# Altium footprint library IS-IMX-5.PcbLib: 1 footprints
Each footprint in its own frame and in the unit in brackets; x right, y up, seen from the top. Pads: shape width x height; smd on the part's side, far side on the other; paste and mask are expansions set on the pad; w line width, h text height; cw(c..) or ccw(c..) is an arc to the next point about the centre after c.
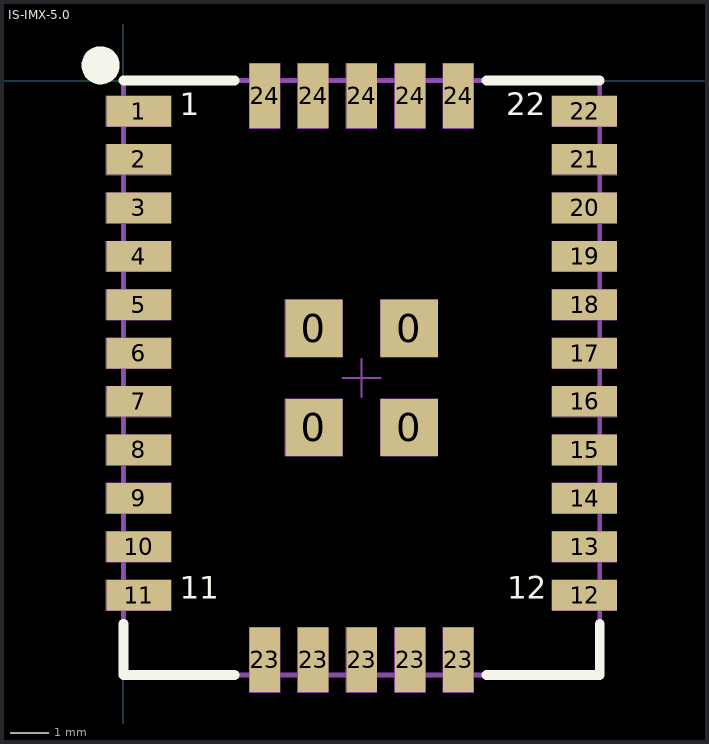
[diagram p0: the footprint, top view; thin cyan lines are the x and y axes]

## IS-IMX-5.0 [mm] "Inerial Sense IMX-5.0, 22pins 1.27mm pitch"
height 2.86
pads (36):
  rect 1.5x1.5 smd: 0(5,-9.1) 0(5,-6.5) 0(7.5,-9.1) 0(7.5,-6.5)
  rect 1.7x0.8 smd: 1(0.4,-0.8) 2(0.4,-2.07) 3(0.4,-3.34) 4(0.4,-4.61) 5(0.4,-5.88) 6(0.4,-7.15) 7(0.4,-8.42) 8(0.4,-9.69) 9(0.4,-10.96) 10(0.4,-12.23) 11(0.4,-13.5) 12(12.1,-13.5) 13(12.1,-12.23) 14(12.1,-10.96) 15(12.1,-9.69) 16(12.1,-8.42) 17(12.1,-7.15) 18(12.1,-5.88) 19(12.1,-4.61) 20(12.1,-3.34) 21(12.1,-2.07) 22(12.1,-0.8)
  rect 0.8x1.7 smd: 23(3.71,-15.2) 23(4.98,-15.2) 23(6.25,-15.2) 23(7.52,-15.2) 23(8.79,-15.2) 24(3.71,-0.4) 24(4.98,-0.4) 24(6.25,-0.4) 24(7.52,-0.4) 24(8.79,-0.4)
Top Overlay:
  circle w0.5: c-0.6,0.4 r0.25
  lines w0.254: 0,-14.25 0,-15.6 2.921,-15.6 ; 0,0 2.921,0 ; 9.525,-15.6 12.5,-15.6 ; 9.525,0 12.5,0 ; 12.5,-15.6 12.5,-14.25
  text "22" at 10.048,-1.1 h1.02
  text "12" at 10.075,-13.8 h1.02
  text "11" at 1.473,-13.8 h1.02
  text "1" at 1.473,-1.1 h1.02
Mechanical 13:
  lines w0.05: 5.75,-7.8 6.75,-7.8 ; 6.25,-8.3 6.25,-7.3
  lines w0.127: 0,-15.6 0,0 12.5,0 12.5,-15.6 0,-15.6
Mechanical 16:
  lines w0.025: -0.45,-13.9 -0.45,-13.1 1.25,-13.1 1.25,-13.9 -0.45,-13.9 ; -0.45,-12.63 -0.45,-11.83 1.25,-11.83 1.25,-12.63 -0.45,-12.63 ; -0.45,-11.36 -0.45,-10.56 1.25,-10.56 1.25,-11.36 -0.45,-11.36 ; -0.45,-10.09 -0.45,-9.29 1.25,-9.29 1.25,-10.09 -0.45,-10.09 ; -0.45,-8.82 -0.45,-8.02 1.25,-8.02 1.25,-8.82 -0.45,-8.82 ; -0.45,-7.55 -0.45,-6.75 1.25,-6.75 1.25,-7.55 -0.45,-7.55 ; -0.45,-6.28 -0.45,-5.48 1.25,-5.48 1.25,-6.28 -0.45,-6.28 ; -0.45,-5.01 -0.45,-4.21 1.25,-4.21 1.25,-5.01 -0.45,-5.01 ; -0.45,-3.74 -0.45,-2.94 1.25,-2.94 1.25,-3.74 -0.45,-3.74 ; -0.45,-2.47 -0.45,-1.67 1.25,-1.67 1.25,-2.47 -0.45,-2.47 ; -0.45,-1.2 -0.45,-0.4 1.25,-0.4 1.25,-1.2 -0.45,-1.2 ; 3.31,-16.05 4.11,-16.05 4.11,-14.35 3.31,-14.35 3.31,-16.05 ; 3.31,-1.25 3.31,0.45 4.11,0.45 4.11,-1.25 3.31,-1.25 ; 4.25,-9.85 5.75,-9.85 5.75,-8.35 4.25,-8.35 4.25,-9.85 ; 4.25,-7.25 5.75,-7.25 5.75,-5.75 4.25,-5.75 4.25,-7.25 ; 4.58,-16.05 5.38,-16.05 5.38,-14.35 4.58,-14.35 4.58,-16.05 ; 4.58,-1.25 4.58,0.45 5.38,0.45 5.38,-1.25 4.58,-1.25 ; 5.85,-16.05 6.65,-16.05 6.65,-14.35 5.85,-14.35 5.85,-16.05 ; 5.85,-1.25 5.85,0.45 6.65,0.45 6.65,-1.25 5.85,-1.25 ; 6.75,-9.85 6.75,-8.35 8.25,-8.35 8.25,-9.85 6.75,-9.85 ; 6.75,-7.25 6.75,-5.75 8.25,-5.75 8.25,-7.25 6.75,-7.25 ; 7.12,-16.05 7.92,-16.05 7.92,-14.35 7.12,-14.35 7.12,-16.05 ; 7.12,-1.25 7.12,0.45 7.92,0.45 7.92,-1.25 7.12,-1.25 ; 8.39,-16.05 9.19,-16.05 9.19,-14.35 8.39,-14.35 8.39,-16.05 ; 8.39,-1.25 8.39,0.45 9.19,0.45 9.19,-1.25 8.39,-1.25 ; 11.25,-13.9 12.95,-13.9 12.95,-13.1 11.25,-13.1 11.25,-13.9 ; 11.25,-12.63 12.95,-12.63 12.95,-11.83 11.25,-11.83 11.25,-12.63 ; 11.25,-11.36 12.95,-11.36 12.95,-10.56 11.25,-10.56 11.25,-11.36 ; 11.25,-10.09 12.95,-10.09 12.95,-9.29 11.25,-9.29 11.25,-10.09 ; 11.25,-8.82 12.95,-8.82 12.95,-8.02 11.25,-8.02 11.25,-8.82 ; 11.25,-7.55 12.95,-7.55 12.95,-6.75 11.25,-6.75 11.25,-7.55 ; 11.25,-6.28 12.95,-6.28 12.95,-5.48 11.25,-5.48 11.25,-6.28 ; 11.25,-5.01 12.95,-5.01 12.95,-4.21 11.25,-4.21 11.25,-5.01 ; 11.25,-3.74 12.95,-3.74 12.95,-2.94 11.25,-2.94 11.25,-3.74 ; 11.25,-2.47 12.95,-2.47 12.95,-1.67 11.25,-1.67 11.25,-2.47 ; 11.25,-1.2 12.95,-1.2 12.95,-0.4 11.25,-0.4 11.25,-1.2
3D body "IMX-5.0.5.step": height 2.89, standoff 0.01, extent 0,-15.6 12.5,0